# Altium schematic symbol library M20-7830446.SchLib: 1 symbol
Pins are listed as number, name and electrical type; pins without a type are passive.

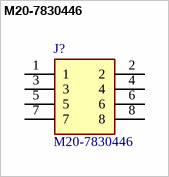
[diagram p0: symbol M20-7830446]

## M20-7830446
designator J?
M20 Socket,Dil,Vertical,2X4W,2.54Mm HARWIN 2.54mm 8 Way 2 Row Straight PCB Socket Through Hole Socket Strip; Geometry.Height: 8.65mm; Manufacturer_Name: Harwin; Manufacturer_Part_Number: M20-7830446; Mouser Part Number: 855-M20-7830446; Mouser Price/Stock: https://www.mouser.co.uk/ProductDetail/Harwin/M20-7830446?qs=vF78I%252BjhbY%2FEi6Q%2F1EBREA%3D%3D; Arrow Part Number: *; Arrow Price/Stock: *; Datasheet Link: https://cdn.harwin.com/pdfs/M20-783.pdf
footprint RHDR8W70P254X254_2X4_1056X500X865P
pins: 1, 2, 3, 4, 5, 6, 7, 8